# Altium footprint library SMD Adjustable resistors.PcbLib: 2 footprints
Each footprint in its own frame and in the unit in brackets; x right, y up, seen from the top. Pads: shape width x height; smd on the part's side, far side on the other; paste and mask are expansions set on the pad; w line width, h text height; cw(c..) or ccw(c..) is an arc to the next point about the centre after c.
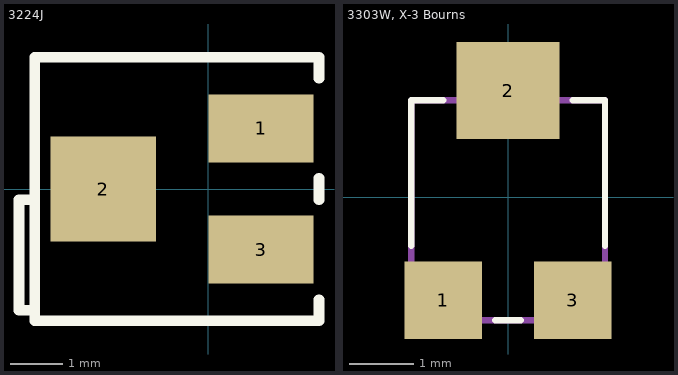
[diagram p0: the footprints below, top view; thin cyan lines are the x and y axes]

## 3224J [mm] "BOURNS 3224J Side Adjust"
height 3.708
pads (3):
  rect 2x1.3 smd: 1(1,1.15) 3(1,-1.15)
  rect 2x2 smd: 2(-2,0)
Top Overlay:
  lines w0.2: -3.3,-2.3 -3.6,-2.3 -3.6,-0.2 -3.3,-0.2 ; 2.1,-2.1 2.1,-2.5 -3.3,-2.5 -3.3,2.5 2.1,2.5 2.1,2.1 ; 2.1,-0.2 2.1,0.2
3D body "3224j.SLDPRT": height 3.71, standoff 0, extent -3,-2.4 2,2.4

## 3303W, X-3 Bourns [mm] "3303 - 3 mm SMD Trimpot® Trimming Potentiometer"
height 1.55
pads (3):
  rect 1.2x1.2 smd: 1(-1,-1.59) 3(1,-1.59)
  rect 1.6x1.5 smd: 2(0,1.65)
Top Overlay:
  lines w0.1: -1.5,-0.75 -1.5,0 -1.5,1.5 -1,1.5 ; -0.2,-1.9 0.2,-1.9 ; 1,1.5 1.5,1.5 1.5,0 1.5,-0.75
Mechanical 13:
  lines w0.1: -1.5,-1.9 -1.5,1.5 -0.6,1.5 -0.6,1.85 0.6,1.85 0.6,1.5 1.5,1.5 1.5,-1.9 -1.5,-1.9
3D body "3303X003.stp": height 1.31, standoff -0.04, extent -1.499,-1.9 1.499,1.846